# Altium footprint library Main.PcbLib: 120 footprints (part 7 of 8)
Each footprint in its own frame and in the unit in brackets; x right, y up, seen from the top. Pads: shape width x height; smd on the part's side, far side on the other; paste and mask are expansions set on the pad; w line width, h text height; cw(c..) or ccw(c..) is an arc to the next point about the centre after c.
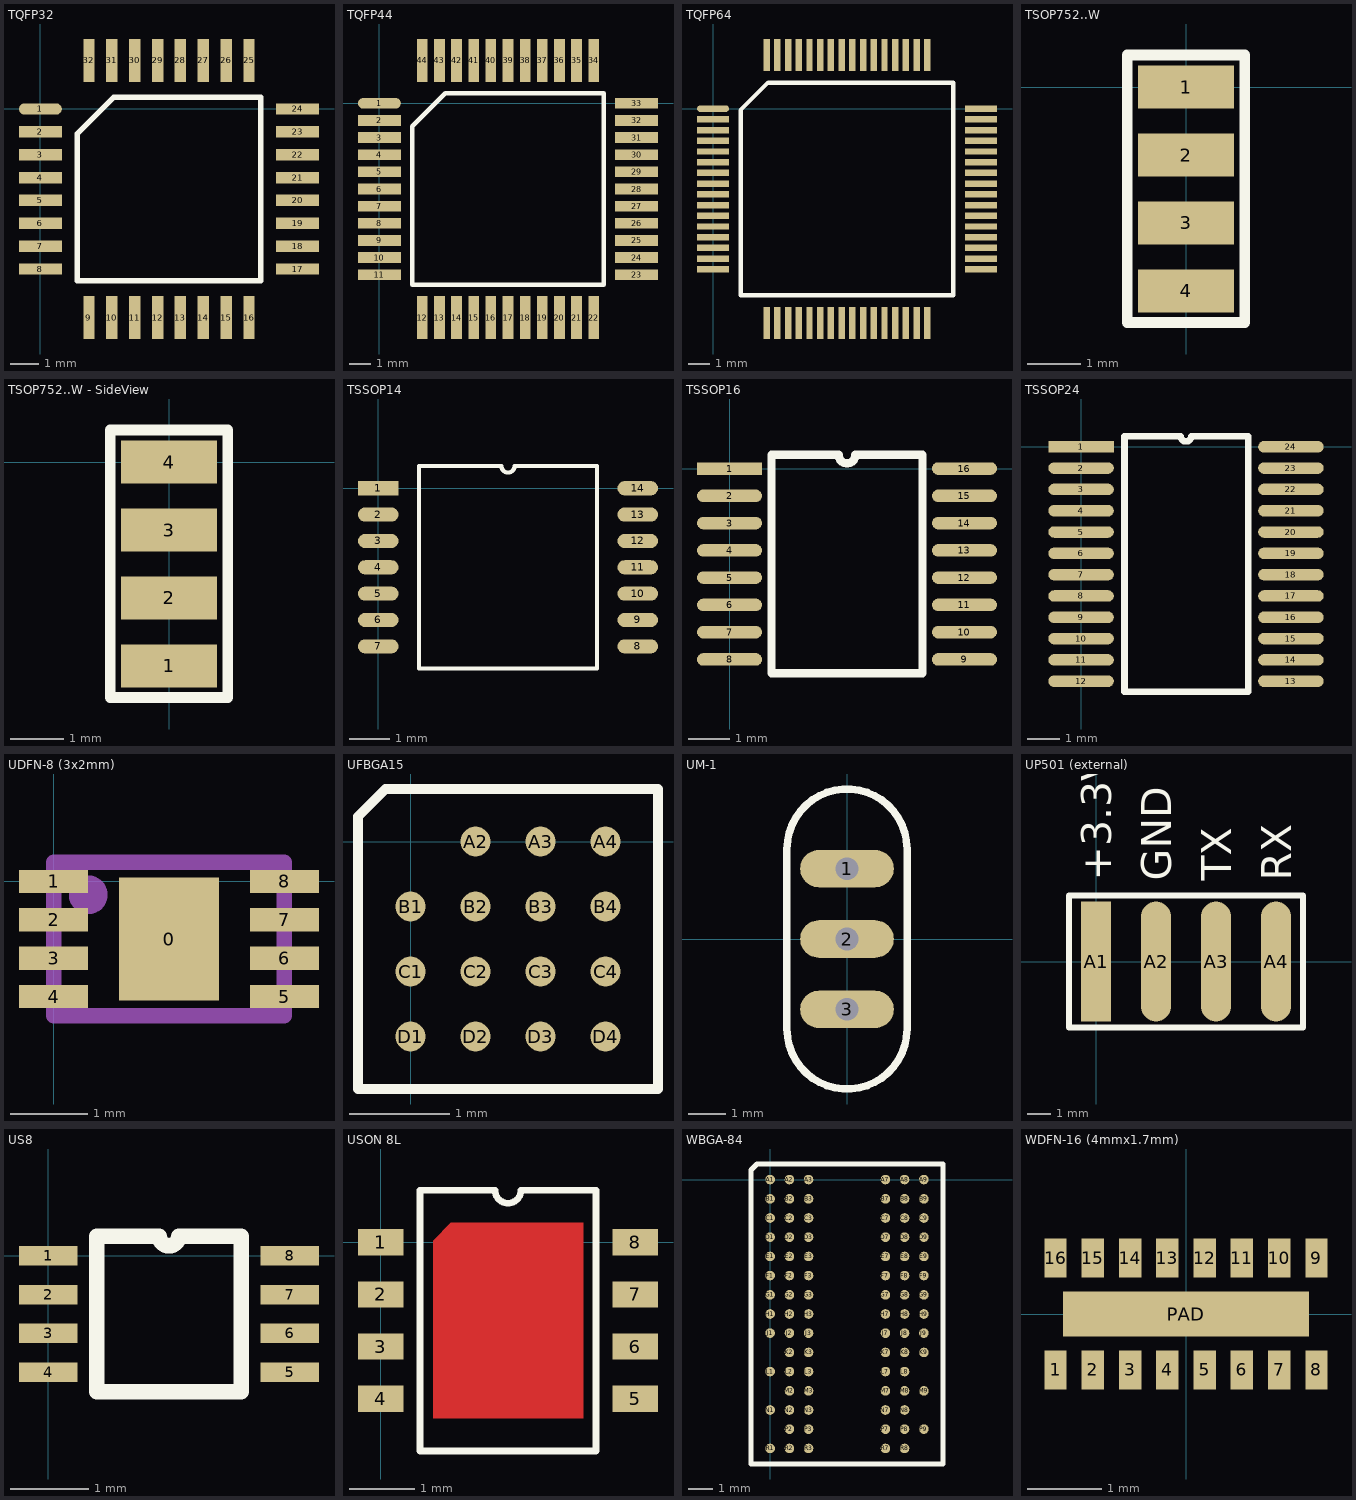
[diagram p6: the footprints below, top view; thin cyan lines are the x and y axes]

## TQFP32 [mm]
pads (32):
  oval 1.5x0.4 smd: 1(0,0)
  rect 1.5x0.4 smd: 2(0,-0.8) 3(0,-1.6) 4(0,-2.4) 5(0,-3.2) 6(0,-4) 7(0,-4.8) 8(0,-5.6) 17(9,-5.6) 18(9,-4.8) 19(9,-4) 20(9,-3.2) 21(9,-2.4) 22(9,-1.6) 23(9,-0.8) 24(9,0)
  rect 0.4x1.5 smd: 9(1.7,-7.3) 10(2.5,-7.3) 11(3.3,-7.3) 12(4.1,-7.3) 13(4.9,-7.3) 14(5.7,-7.3) 15(6.5,-7.3) 16(7.3,-7.3) 25(7.3,1.7) 26(6.5,1.7) 27(5.7,1.7) 28(4.9,1.7) 29(4.1,1.7) 30(3.3,1.7) 31(2.5,1.7) 32(1.7,1.7)
Top Overlay:
  lines w0.2: 1.285,-6.015 1.285,-0.87 2.57,0.415 7.715,0.415 7.715,-6.015 1.285,-6.015
3D body: height 0.1, standoff 0, extent 1.512,-7.3 1.887,-6.3
3D body: height 0.1, standoff 0, extent 2.312,-7.3 2.688,-6.3
3D body: height 0.1, standoff 0, extent 3.912,-7.3 4.287,-6.3
3D body: height 0.1, standoff 0, extent 3.112,-7.3 3.487,-6.3
3D body: height 0.1, standoff 0, extent 6.312,-7.3 6.687,-6.3
3D body: height 0.1, standoff 0, extent 7.113,-7.3 7.488,-6.3
3D body: height 0.1, standoff 0, extent 5.513,-7.3 5.888,-6.3
3D body: height 0.1, standoff 0, extent 4.713,-7.3 5.088,-6.3
3D body: height 0.1, standoff 0, extent 8,-0.188 9,0.188
3D body: height 0.1, standoff 0, extent 8,-0.988 9,-0.613
3D body: height 0.1, standoff 0, extent 8,-2.588 9,-2.213
3D body: height 0.1, standoff 0, extent 8,-1.787 9,-1.412
3D body: height 0.1, standoff 0, extent 8,-4.988 9,-4.613
3D body: height 0.1, standoff 0, extent 8,-5.788 9,-5.413
3D body: height 0.1, standoff 0, extent 8,-4.188 9,-3.813
3D body: height 0.1, standoff 0, extent 8,-3.388 9,-3.013
3D body: height 0.1, standoff 0, extent 1.512,0.7 1.887,1.7
3D body: height 0.1, standoff 0, extent 2.312,0.7 2.688,1.7
3D body: height 0.1, standoff 0, extent 3.912,0.7 4.287,1.7
3D body: height 0.1, standoff 0, extent 3.112,0.7 3.487,1.7
3D body: height 0.1, standoff 0, extent 6.312,0.7 6.687,1.7
3D body: height 0.1, standoff 0, extent 7.113,0.7 7.488,1.7
3D body: height 0.1, standoff 0, extent 5.513,0.7 5.888,1.7
3D body: height 0.1, standoff 0, extent 4.713,0.7 5.088,1.7
3D body: height 0.1, standoff 0, extent 0,-3.388 1,-3.013
3D body: height 0.1, standoff 0, extent 0,-4.188 1,-3.813
3D body: height 0.1, standoff 0, extent 0,-5.788 1,-5.413
3D body: height 0.1, standoff 0, extent 0,-4.988 1,-4.613
3D body: height 0.1, standoff 0, extent 0,-1.787 1,-1.412
3D body: height 0.1, standoff 0, extent 0,-2.588 1,-2.213
3D body: height 0.1, standoff 0, extent 0,-0.988 1,-0.613
3D body: height 0.1, standoff 0, extent 0,-0.188 1,0.188
3D body: height 1.2, standoff 0, extent 1,-6.3 8,0.7

## TQFP44 [mm]
pads (44):
  oval 2x0.5 smd: 1(0,0)
  rect 2x0.5 smd: 2(0,-0.8) 3(0,-1.6) 4(0,-2.4) 5(0,-3.2) 6(0,-4) 7(0,-4.8) 8(0,-5.6) 9(0,-6.4) 10(0,-7.2) 11(0,-8) 23(12,-8) 24(12,-7.2) 25(12,-6.4) 26(12,-5.6) 27(12,-4.8) 28(12,-4) 29(12,-3.2) 30(12,-2.4) 31(12,-1.6) 32(12,-0.8) 33(12,0)
  rect 0.5x2 smd: 12(2,-10) 13(2.8,-10) 14(3.6,-10) 15(4.4,-10) 16(5.2,-10) 17(6,-10) 18(6.8,-10) 19(7.6,-10) 20(8.4,-10) 21(9.2,-10) 22(10,-10) 34(10,2) 35(9.2,2) 36(8.4,2) 37(7.6,2) 38(6.8,2) 39(6,2) 40(5.2,2) 41(4.4,2) 42(3.6,2) 43(2.8,2) 44(2,2)
Top Overlay:
  lines w0.2: 1.535,-8.465 10.465,-8.465 10.465,0.465 3.07,0.465 1.535,-1.07 1.535,-8.465
3D body: height 1.2, standoff 0.1, extent 1,-9 11,1
3D body: height 0.1, standoff 0, extent 0,-0.188 1,0.188
3D body: height 0.1, standoff 0, extent 0,-0.988 1,-0.613
3D body: height 0.1, standoff 0, extent 0,-2.588 1,-2.213
3D body: height 0.1, standoff 0, extent 0,-1.787 1,-1.412
3D body: height 0.1, standoff 0, extent 0,-4.988 1,-4.613
3D body: height 0.1, standoff 0, extent 0,-5.788 1,-5.413
3D body: height 0.1, standoff 0, extent 0,-4.188 1,-3.813
3D body: height 0.1, standoff 0, extent 0,-3.388 1,-3.013
3D body: height 0.1, standoff 0, extent 0,-8.187 1,-7.812
3D body: height 0.1, standoff 0, extent 0,-7.388 1,-7.013
3D body: height 0.1, standoff 0, extent 0,-6.588 1,-6.212
3D body: height 0.1, standoff 0, extent 8.213,-10 8.588,-9
3D body: height 0.1, standoff 0, extent 9.013,-10 9.388,-9
3D body: height 0.1, standoff 0, extent 9.813,-10 10.188,-9
3D body: height 0.1, standoff 0, extent 5.013,-10 5.388,-9
3D body: height 0.1, standoff 0, extent 5.813,-10 6.188,-9
3D body: height 0.1, standoff 0, extent 7.413,-10 7.788,-9
3D body: height 0.1, standoff 0, extent 6.613,-10 6.988,-9
3D body: height 0.1, standoff 0, extent 3.413,-10 3.788,-9
3D body: height 0.1, standoff 0, extent 4.213,-10 4.588,-9
3D body: height 0.1, standoff 0, extent 2.613,-10 2.988,-9
3D body: height 0.1, standoff 0, extent 1.813,-10 2.188,-9
3D body: height 0.1, standoff 0, extent 11,-1.787 12,-1.412
3D body: height 0.1, standoff 0, extent 11,-0.987 12,-0.612
3D body: height 0.1, standoff 0, extent 11,-0.188 12,0.188
3D body: height 0.1, standoff 0, extent 11,-4.987 12,-4.612
3D body: height 0.1, standoff 0, extent 11,-4.187 12,-3.812
3D body: height 0.1, standoff 0, extent 11,-2.587 12,-2.212
3D body: height 0.1, standoff 0, extent 11,-3.387 12,-3.012
3D body: height 0.1, standoff 0, extent 11,-6.588 12,-6.212
3D body: height 0.1, standoff 0, extent 11,-5.787 12,-5.412
3D body: height 0.1, standoff 0, extent 11,-7.387 12,-7.012
3D body: height 0.1, standoff 0, extent 11,-8.187 12,-7.812
3D body: height 0.1, standoff 0, extent 3.413,1 3.788,2
3D body: height 0.1, standoff 0, extent 2.612,1 2.987,2
3D body: height 0.1, standoff 0, extent 1.813,1 2.188,2
3D body: height 0.1, standoff 0, extent 6.612,1 6.987,2
3D body: height 0.1, standoff 0, extent 5.812,1 6.187,2
3D body: height 0.1, standoff 0, extent 4.212,1 4.587,2
3D body: height 0.1, standoff 0, extent 5.012,1 5.388,2
3D body: height 0.1, standoff 0, extent 8.213,1 8.588,2
3D body: height 0.1, standoff 0, extent 7.412,1 7.788,2
3D body: height 0.1, standoff 0, extent 9.012,1 9.387,2
3D body: height 0.1, standoff 0, extent 9.813,1 10.188,2

## TQFP64 [mm]
pads (64):
  oval 1.5x0.3 smd: 1(0,0)
  rect 1.5x0.3 smd: 2(0,-0.5) 3(0,-1) 4(0,-1.5) 5(0,-2) 6(0,-2.5) 7(0,-3) 8(0,-3.5) 9(0,-4) 10(0,-4.5) 11(0,-5) 12(0,-5.5) 13(0,-6) 14(0,-6.5) 15(0,-7) 16(0,-7.5) 33(12.5,-7.5) 34(12.5,-7) 35(12.5,-6.5) 36(12.5,-6) 37(12.5,-5.5) 38(12.5,-5) 39(12.5,-4.5) 40(12.5,-4) 41(12.5,-3.5) 42(12.5,-3) 43(12.5,-2.5) 44(12.5,-2) 45(12.5,-1.5) 46(12.5,-1) 47(12.5,-0.5) 48(12.5,0)
  rect 0.3x1.5 smd: 17(2.5,-10) 18(3,-10) 19(3.5,-10) 20(4,-10) 21(4.5,-10) 22(5,-10) 23(5.5,-10) 24(6,-10) 25(6.5,-10) 26(7,-10) 27(7.5,-10) 28(8,-10) 29(8.5,-10) 30(9,-10) 31(9.5,-10) 32(10,-10) 49(10,2.5) 50(9.5,2.5) 51(9,2.5) 52(8.5,2.5) 53(8,2.5) 54(7.5,2.5) 55(7,2.5) 56(6.5,2.5) 57(6,2.5) 58(5.5,2.5) 59(5,2.5) 60(4.5,2.5) 61(4,2.5) 62(3.5,2.5) 63(3,2.5) 64(2.5,2.5)
Top Overlay:
  lines w0.2: 1.285,-8.715 1.285,-0.07 2.57,1.215 11.215,1.215 11.215,-8.715 1.285,-8.715
3D body: height 1, standoff 0.1, extent 1.25,-8.75 11.25,1.25

## TSOP752..W [mm]
pads (4):
  rect 1.8x0.8 smd: 1(0,0) 2(0,-1.27) 3(0,-2.54) 4(0,-3.81)
Top Overlay:
  lines w0.2: -1.1,-4.4 1.1,-4.4 1.1,0.6 -1.1,0.6 -1.1,-4.4
3D body: height 2.35, standoff 0, extent 0,-5.3 3,1.5

## TSOP752..W - SideView [mm]
pads (4):
  rect 1.8x0.8 smd: 1(0,-3.81) 2(0,-2.54) 3(0,-1.27) 4(0,0)
Top Overlay:
  lines w0.2: -1.1,-4.4 1.1,-4.4 1.1,0.6 -1.1,0.6 -1.1,-4.4
3D body: height 2.35, standoff 0, extent 0,-5.3 3,1.5

## TSSOP14 [mm]
pads (14):
  rect 1x0.35 smd: 1(0,0)
  oval 1x0.35 smd: 2(0,-0.65) 3(0,-1.3) 4(0,-1.95) 5(0,-2.6) 6(0,-3.25) 7(0,-3.9) 8(6.4,-3.9) 9(6.4,-3.25) 10(6.4,-2.6) 11(6.4,-1.95) 12(6.4,-1.3) 13(6.4,-0.65) 14(6.4,0)
Top Overlay:
  lines w0.102: 1,-4.45 1,0.55 3.037,0.55 ccw(c3.2,0.55) 3.362,0.55 5.4,0.55 5.4,-4.45 1,-4.45
3D body: height 1.2, standoff 0, extent 1,-4.45 5.4,0.55

## TSSOP16 [mm]
pads (16):
  rect 1.55x0.3 smd: 1(0,0)
  oval 1.55x0.3 smd: 2(0,-0.65) 3(0,-1.3) 4(0,-1.95) 5(0,-2.6) 6(0,-3.25) 7(0,-3.9) 8(0,-4.55) 9(5.6,-4.55) 10(5.6,-3.9) 11(5.6,-3.25) 12(5.6,-2.6) 13(5.6,-1.95) 14(5.6,-1.3) 15(5.6,-0.65) 16(5.6,0)
Top Overlay:
  lines w0.2: 1,-4.875 1,0.325 2.6,0.325 ccw(c2.8,0.325) 3,0.325 4.6,0.325 4.6,-4.875 1,-4.875
3D body: height 0.1, standoff 0, extent -0.4,-0.125 0.6,0.125
3D body: height 1.1, standoff 0.1, extent 0.6,-4.75 5,0.25
3D body: height 0.1, standoff 0, extent -0.4,-0.775 0.6,-0.525
3D body: height 0.1, standoff 0, extent -0.4,-1.425 0.6,-1.175
3D body: height 0.1, standoff 0, extent -0.4,-2.075 0.6,-1.825
3D body: height 0.1, standoff 0, extent -0.4,-4.675 0.6,-4.425
3D body: height 0.1, standoff 0, extent -0.4,-4.025 0.6,-3.775
3D body: height 0.1, standoff 0, extent -0.4,-3.375 0.6,-3.125
3D body: height 0.1, standoff 0, extent -0.4,-2.725 0.6,-2.475
3D body: height 0.1, standoff 0, extent 5,-2.075 6,-1.825
3D body: height 0.1, standoff 0, extent 5,-1.425 6,-1.175
3D body: height 0.1, standoff 0, extent 5,-0.775 6,-0.525
3D body: height 0.1, standoff 0, extent 5,-0.125 6,0.125
3D body: height 0.1, standoff 0, extent 5,-2.725 6,-2.475
3D body: height 0.1, standoff 0, extent 5,-3.375 6,-3.125
3D body: height 0.1, standoff 0, extent 5,-4.025 6,-3.775
3D body: height 0.1, standoff 0, extent 5,-4.675 6,-4.425

## TSSOP24 [mm]
pads (24):
  rect 2x0.35 smd: 1(0,0)
  oval 2x0.35 smd: 2(0,-0.65) 3(0,-1.3) 4(0,-1.95) 5(0,-2.6) 6(0,-3.25) 7(0,-3.9) 8(0,-4.55) 9(0,-5.2) 10(0,-5.85) 11(0,-6.5) 12(0,-7.15) 13(6.4,-7.15) 14(6.4,-6.5) 15(6.4,-5.85) 16(6.4,-5.2) 17(6.4,-4.55) 18(6.4,-3.9) 19(6.4,-3.25) 20(6.4,-2.6) 21(6.4,-1.95) 22(6.4,-1.3) 23(6.4,-0.65) 24(6.4,0)
Top Overlay:
  lines w0.2: 1.325,-7.475 1.325,0.325 3.037,0.325 ccw(c3.2,0.325) 3.362,0.325 5.1,0.325 5.1,-7.475 1.325,-7.475
3D body: height 1.2, standoff 0, extent 1,-7.475 5.4,0.325

## UDFN-8 (3x2mm) [mm]
pads (9):
  rect 1.3x1.6 smd: 0(1.5,-0.75)
  rect 0.9x0.3 smd: 1(0,0) 2(0,-0.5) 3(0,-1) 4(0,-1.5) 5(3,-1.5) 6(3,-1) 7(3,-0.5) 8(3,0)
Mechanical 29:
  circle w0.254: c0.45,-0.175 r0.125
  lines w0.2: 0,-1.75 3,-1.75 3,0.25 0,0.25 0,-1.75
  text ".Designator" at 0.55,-1.125 h0.76
3D body: height 0.6, standoff 0, extent 0,-1.75 3,0.25

## UFBGA15 [mm]
pads (15):
  round 0.3 smd: A2(0.65,0) A3(1.3,0) A4(1.95,0) B1(0,-0.65) B2(0.65,-0.65) B3(1.3,-0.65) B4(1.95,-0.65) C1(0,-1.3) C2(0.65,-1.3) C3(1.3,-1.3) C4(1.95,-1.3) D1(0,-1.95) D2(0.65,-1.95) D3(1.3,-1.95) D4(1.95,-1.95)
Top Overlay:
  lines w0.102: -0.525,-2.475 2.475,-2.475 2.475,0.525 -0.25,0.525 -0.525,0.25 -0.525,-2.475
3D body: height 0.6, standoff 0, extent -0.525,-2.475 2.475,0.525

## UM-1 [mm]
pads (3):
  oval 2.5x1 hole 0.6: 1(0,1.875) 2(0,0) 3(0,-1.875)
Top Overlay:
  lines w0.2: -1.6,-2.4 ccw(c0,-2.397) 1.6,-2.4 1.6,2.4 ccw(c0,2.397) -1.6,2.4 -1.6,-2.4
3D body: height 8, standoff 0, extent -1.24,-2.4 1.25,2.4
3D body: height 8, standoff 0, extent -1.24,-3.647 1.25,-1.152
3D body: height 8, standoff 0, extent -1.24,1.153 1.25,3.648

## UP501 (external) [mm]
pads (4):
  rect 1.27x5.08 smd: A1(0,0)
  oval 1.27x5.08 smd: A2(2.54,0) A3(5.08,0) A4(7.62,0)
Top Overlay:
  lines w0.254: -1.143,-2.794 -1.143,2.794 8.763,2.794 8.763,-2.794 -1.143,-2.794
  text "+3.3V" at 0.635,3.429 h1.27
  text "GND" at 3.175,3.429 h1.27
  text "TX" at 5.715,3.429 h1.27
  text "RX" at 8.255,3.429 h1.27

## US8 [mm]
pads (8):
  rect 0.75x0.25 smd: 1(0,0) 2(0,-0.5) 3(0,-1) 4(0,-1.5) 5(3.1,-1.5) 6(3.1,-1) 7(3.1,-0.5) 8(3.1,0)
Top Overlay:
  lines w0.2: 0.625,-1.75 2.475,-1.75 2.475,0.25 1.675,0.25 cw(c1.55,0.25) 1.425,0.25 0.625,0.25 0.625,-1.75
3D body: height 0.1, standoff 0, extent 2.75,-0.125 3.15,0.125
3D body: height 0.1, standoff 0, extent 2.75,-0.625 3.15,-0.375
3D body: height 0.1, standoff 0, extent 2.75,-1.125 3.15,-0.875
3D body: height 0.1, standoff 0, extent 2.75,-1.625 3.15,-1.375
3D body: height 0.1, standoff 0, extent -0.05,-1.625 0.35,-1.375
3D body: height 0.1, standoff 0, extent -0.05,-1.125 0.35,-0.875
3D body: height 0.1, standoff 0, extent -0.05,-0.625 0.35,-0.375
3D body: height 0.1, standoff 0, extent -0.05,-0.125 0.35,0.125
3D body: height 0.9, standoff 0, extent 0.35,-1.8 2.75,0.3

## USON 8L [mm]
pads (8):
  rect 0.7x0.4 smd: 1(0,0) 2(0,-0.8) 3(0,-1.6) 4(0,-2.4) 5(3.9,-2.4) 6(3.9,-1.6) 7(3.9,-0.8) 8(3.9,0)
Top Layer:
  region: 0.8,0.025 1.075,0.3 3.1,0.3 3.1,-2.7 0.8,-2.7
Top Overlay:
  lines w0.102: 0.6,-3.2 3.3,-3.2 3.3,0.8 2.15,0.8 cw(c1.95,0.8) 1.75,0.8 0.6,0.8 0.6,-3.2
3D body: height 0.55, standoff 0, extent -0.05,-3.2 3.95,0.8

## WBGA-84 [mm]
height 1.2
pads (84):
  round 0.4 smd: A1(0,0) A2(0.8,0) A3(1.6,0) A7(4.8,0) A8(5.6,0) A9(6.4,0) B1(0,-0.8) B2(0.8,-0.8) B3(1.6,-0.8) B7(4.8,-0.8) B8(5.6,-0.8) B9(6.4,-0.8) C1(0,-1.6) C2(0.8,-1.6) C3(1.6,-1.6) C7(4.8,-1.6) C8(5.6,-1.6) C9(6.4,-1.6) D1(0,-2.4) D2(0.8,-2.4) D3(1.6,-2.4) D7(4.8,-2.4) D8(5.6,-2.4) D9(6.4,-2.4) E1(0,-3.2) E2(0.8,-3.2) E3(1.6,-3.2) E7(4.8,-3.2) E8(5.6,-3.2) E9(6.4,-3.2) F1(0,-4) F2(0.8,-4) F3(1.6,-4) F7(4.8,-4) F8(5.6,-4) F9(6.4,-4) G1(0,-4.8) G2(0.8,-4.8) G3(1.6,-4.8) G7(4.8,-4.8) G8(5.6,-4.8) G9(6.4,-4.8) H1(0,-5.6) H2(0.8,-5.6) H3(1.6,-5.6) H7(4.8,-5.6) H8(5.6,-5.6) H9(6.4,-5.6) J1(0,-6.4) J2(0.8,-6.4) J3(1.6,-6.4) J7(4.8,-6.4) J8(5.6,-6.4) J9(6.4,-6.4) K2(0.8,-7.2) K3(1.6,-7.2) K7(4.8,-7.2) K8(5.6,-7.2) K9(6.4,-7.2) L1(0,-8) L2(0.8,-8) L3(1.6,-8) L7(4.8,-8) L8(5.6,-8) M2(0.8,-8.8) M3(1.6,-8.8) M7(4.8,-8.8) M8(5.6,-8.8) M9(6.4,-8.8) N1(0,-9.6) N2(0.8,-9.6) N3(1.6,-9.6) N7(4.8,-9.6) N8(5.6,-9.6) P2(0.8,-10.4) P3(1.6,-10.4) P7(4.8,-10.4) P8(5.6,-10.4) P9(6.4,-10.4) R1(0,-11.2) R2(0.8,-11.2) R3(1.6,-11.2) R7(4.8,-11.2) R8(5.6,-11.2)
Top Overlay:
  lines w0.2: -0.8,-11.85 7.2,-11.85 7.2,0.65 -0.55,0.65 -0.8,0.4 -0.8,-11.85
3D body: height 1, standoff 0, extent -0.8,-11.85 7.2,0.65

## WDFN-16 (4mmx1.7mm) [mm]
pads (17):
  rect 0.3x0.525 smd: 1(-1.75,-0.75) 2(-1.25,-0.75) 3(-0.75,-0.75) 4(-0.25,-0.75) 5(0.25,-0.75) 6(0.75,-0.75) 7(1.25,-0.75) 8(1.75,-0.75) 9(1.75,0.75) 10(1.25,0.75) 11(0.75,0.75) 12(0.25,0.75) 13(-0.25,0.75) 14(-0.75,0.75) 15(-1.25,0.75) 16(-1.75,0.75)
  rect 3.3x0.6 smd: PAD(0,0)
3D body: height 0.8, standoff 0, extent -2,-0.85 2,0.85